# Altium schematic symbol library WCAP-CSMH.SchLib: 111 symbols (part 3 of 3)
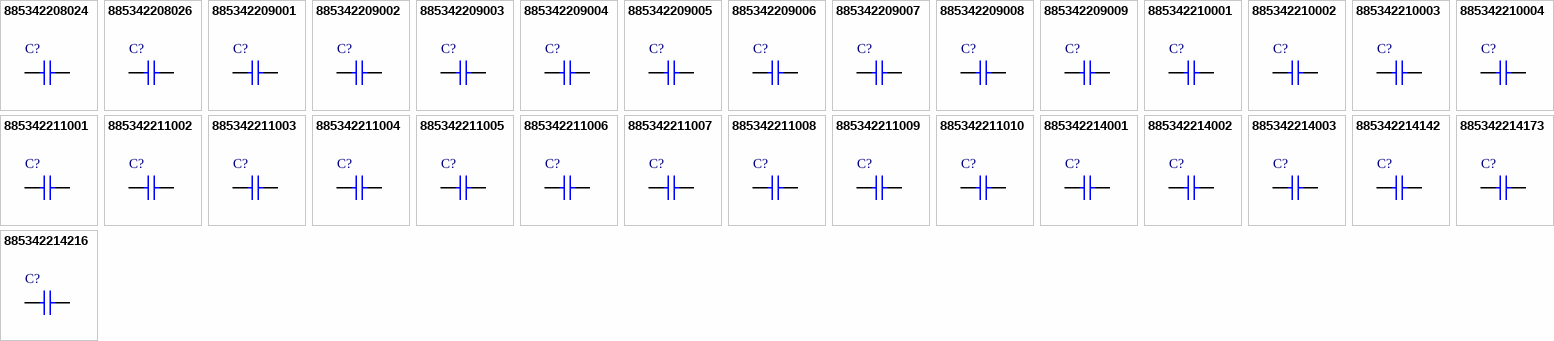
[diagram p4: symbols 885342208024 to 885342214216]

## 885342211006
designator C?, comment 100nF  (value not drawn)
WCAP-CSMH Multilayer Ceramic Chip Capacitor Mid and High Voltage, SMT, size 1812, X7R Class II, 100nF, 630V; Manufacturer Part Number: 885342211006; Manufacturer: Wurth Elektronik; Case/Size Code: 1812; Capacitance Tolerance: +/-10%; Dissipation Factor: 2.5%; Insulation Resistance: 1GΩ; Category: Multilayer Ceramic Chip Capacitors; Match Code: WCAP-CSMH; ComponentLink1Description: Website Link; ComponentLink1URL: https://www.we-online.com/redexpert/article/885342211006?ad; ComponentLink2Description: Datasheet Link; ComponentLink2URL: https://www.we-online.com/redexpert/spec/885342211006?ad; Mount: Surface Mount; Min Operating Temperature: -55°C; Max Operating Temperature: 125°C; Packaging: Tape and Reel; Length: 4.5mm; Width: 3.2mm; Height: 2mm; Capacitance: 100nF; Ceramic Type: X7R Class II; Rated Voltage (DC): 630V
footprint WCAP-CSMH_1812_H2
simulation model 1812_885342211006_100nF
pins: 1, 2

## 885342211007
designator C?, comment 2.2nF  (value not drawn)
WCAP-CSMH Multilayer Ceramic Chip Capacitor Mid and High Voltage, SMT, size 1812, X7R Class II, 2.2nF, 2000V; Manufacturer Part Number: 885342211007; Manufacturer: Wurth Elektronik; Case/Size Code: 1812; Capacitance Tolerance: +/-10%; Dissipation Factor: 2.5%; Insulation Resistance: 10GΩ; Category: Multilayer Ceramic Chip Capacitors; Match Code: WCAP-CSMH; ComponentLink1Description: Website Link; ComponentLink1URL: https://www.we-online.com/redexpert/article/885342211007?ad; ComponentLink2Description: Datasheet Link; ComponentLink2URL: https://www.we-online.com/redexpert/spec/885342211007?ad; Mount: Surface Mount; Min Operating Temperature: -55°C; Max Operating Temperature: 125°C; Packaging: Tape and Reel; Length: 4.5mm; Width: 3.2mm; Height: 1.25mm; Capacitance: 2.2nF; Ceramic Type: X7R Class II; Rated Voltage (DC): 2000V
footprint WCAP-CSMH_1812_H1.25
simulation model 1812_885342211007_2.2nF
pins: 1, 2

## 885342211008
designator C?, comment 4.7nF  (value not drawn)
WCAP-CSMH Multilayer Ceramic Chip Capacitor Mid and High Voltage, SMT, size 1812, X7R Class II, 4.7nF, 2000V; Manufacturer Part Number: 885342211008; Manufacturer: Wurth Elektronik; Case/Size Code: 1812; Capacitance Tolerance: +/-10%; Dissipation Factor: 2.5%; Insulation Resistance: 10GΩ; Category: Multilayer Ceramic Chip Capacitors; Match Code: WCAP-CSMH; ComponentLink1Description: Website Link; ComponentLink1URL: https://www.we-online.com/redexpert/article/885342211008?ad; ComponentLink2Description: Datasheet Link; ComponentLink2URL: https://www.we-online.com/redexpert/spec/885342211008?ad; Mount: Surface Mount; Min Operating Temperature: -55°C; Max Operating Temperature: 125°C; Packaging: Tape and Reel; Length: 4.5mm; Width: 3.2mm; Height: 2mm; Capacitance: 4.7nF; Ceramic Type: X7R Class II; Rated Voltage (DC): 2000V
footprint WCAP-CSMH_1812_H2
simulation model 1812_885342211008_4.7nF
pins: 1, 2

## 885342211009
designator C?, comment 1nF  (value not drawn)
WCAP-CSMH Multilayer Ceramic Chip Capacitor Mid and High Voltage, SMT, size 1812, X7R Class II, 1nF, 3000V; Manufacturer Part Number: 885342211009; Manufacturer: Wurth Elektronik; Case/Size Code: 1812; Capacitance Tolerance: +/-10%; Dissipation Factor: 2.5%; Insulation Resistance: 10GΩ; Category: Multilayer Ceramic Chip Capacitors; Match Code: WCAP-CSMH; ComponentLink1Description: Website Link; ComponentLink1URL: https://www.we-online.com/redexpert/article/885342211009?ad; ComponentLink2Description: Datasheet Link; ComponentLink2URL: https://www.we-online.com/redexpert/spec/885342211009?ad; Mount: Surface Mount; Min Operating Temperature: -55°C; Max Operating Temperature: 125°C; Packaging: Tape and Reel; Length: 4.5mm; Width: 3.2mm; Height: 2mm; Capacitance: 1nF; Ceramic Type: X7R Class II; Rated Voltage (DC): 3000V
footprint WCAP-CSMH_1812_H2
simulation model 1812_885342211009_1nF
pins: 1, 2

## 885342211010
designator C?, comment 2.2nF  (value not drawn)
WCAP-CSMH Multilayer Ceramic Chip Capacitor Mid and High Voltage, SMT, size 1812, X7R Class II, 2.2nF, 3000V; Manufacturer Part Number: 885342211010; Manufacturer: Wurth Elektronik; Case/Size Code: 1812; Capacitance Tolerance: +/-10%; Dissipation Factor: 2.5%; Insulation Resistance: 10GΩ; Category: Multilayer Ceramic Chip Capacitors; Match Code: WCAP-CSMH; ComponentLink1Description: Website Link; ComponentLink1URL: https://www.we-online.com/redexpert/article/885342211010?ad; ComponentLink2Description: Datasheet Link; ComponentLink2URL: https://www.we-online.com/redexpert/spec/885342211010?ad; Mount: Surface Mount; Min Operating Temperature: -55°C; Max Operating Temperature: 125°C; Packaging: Tape and Reel; Length: 4.5mm; Width: 3.2mm; Height: 2.5mm; Capacitance: 2.2nF; Ceramic Type: X7R Class II; Rated Voltage (DC): 3000V
footprint WCAP-CSMH_1812_H2.5
simulation model 1812_885342211010_2.2nF
pins: 1, 2

## 885342214001
designator C?, comment 1µF  (value not drawn)
WCAP-CSMH Multilayer Ceramic Chip Capacitor Mid and High Voltage, SMT, size 2220, X7R Class II, 1µF, 630V; Manufacturer Part Number: 885342214001; Manufacturer: Wurth Elektronik; Case/Size Code: 2220; Capacitance Tolerance: +/-10%; Dissipation Factor: 2.5%; Insulation Resistance: 0.1GΩ; Category: Multilayer Ceramic Chip Capacitors; Match Code: WCAP-CSMH; ComponentLink1Description: Website Link; ComponentLink1URL: https://www.we-online.com/redexpert/article/885342214001?ad; ComponentLink2Description: Datasheet Link; ComponentLink2URL: https://www.we-online.com/redexpert/spec/885342214001?ad; Mount: Surface Mount; Min Operating Temperature: -55°C; Max Operating Temperature: 125°C; Packaging: Tape and Reel; Length: 5.7mm; Width: 5mm; Height: 2.8mm; Capacitance: 1µF; Ceramic Type: X7R Class II; Rated Voltage (DC): 630V
footprint WCAP-CSMH_2220_H2.8
simulation model 2220_885342214001_1uF
pins: 1, 2

## 885342214002
designator C?, comment 1µF  (value not drawn)
WCAP-CSMH Multilayer Ceramic Chip Capacitor Mid and High Voltage, SMT, size 2220, X7R Class II, 1µF, 250V; Manufacturer Part Number: 885342214002; Manufacturer: Wurth Elektronik; Case/Size Code: 2220; Capacitance Tolerance: +/-10%; Dissipation Factor: 2.5%; Insulation Resistance: 0.1GΩ; Category: Multilayer Ceramic Chip Capacitors; Match Code: WCAP-CSMH; ComponentLink1Description: Website Link; ComponentLink1URL: https://www.we-online.com/redexpert/article/885342214002?ad; ComponentLink2Description: Datasheet Link; ComponentLink2URL: https://www.we-online.com/redexpert/spec/885342214002?ad; Mount: Surface Mount; Min Operating Temperature: -55°C; Max Operating Temperature: 125°C; Packaging: Tape and Reel; Length: 5.7mm; Width: 5mm; Height: 2mm; Capacitance: 1µF; Ceramic Type: X7R Class II; Rated Voltage (DC): 250V
footprint WCAP-CSMH_2220_H2
simulation model 2220_885342214002_1uF
pins: 1, 2

## 885342214003
designator C?, comment 2.2µF  (value not drawn)
WCAP-CSMH Multilayer Ceramic Chip Capacitor Mid and High Voltage, SMT, size 2220, X7R Class II, 2.2µF, 250V; Manufacturer Part Number: 885342214003; Manufacturer: Wurth Elektronik; Case/Size Code: 2220; Capacitance Tolerance: +/-10%; Dissipation Factor: 2.5%; Insulation Resistance: 0.05GΩ; Category: Multilayer Ceramic Chip Capacitors; Match Code: WCAP-CSMH; ComponentLink1Description: Website Link; ComponentLink1URL: https://www.we-online.com/redexpert/article/885342214003?ad; ComponentLink2Description: Datasheet Link; ComponentLink2URL: https://www.we-online.com/redexpert/spec/885342214003?ad; Mount: Surface Mount; Min Operating Temperature: -55°C; Max Operating Temperature: 125°C; Packaging: Tape and Reel; Length: 5.7mm; Width: 5mm; Height: 2.5mm; Capacitance: 2.2µF; Ceramic Type: X7R Class II; Rated Voltage (DC): 250V
footprint WCAP-CSMH_2220_H2.5
simulation model 2220_885342214003_2.2uF
pins: 1, 2

## 885342214142
designator C?, comment 220nF  (value not drawn)
WCAP-CSMH Multilayer Ceramic Chip Capacitor Mid and High Voltage, SMT, size 2220, X7R Class II, 220nF, 630V; Manufacturer Part Number: 885342214142; Manufacturer: Wurth Elektronik; Case/Size Code: 2220; Capacitance Tolerance: +/-10%; Dissipation Factor: 2.5%; Insulation Resistance: 0.5GΩ; Category: Multilayer Ceramic Chip Capacitors; Match Code: WCAP-CSMH; ComponentLink1Description: Website Link; ComponentLink1URL: https://www.we-online.com/redexpert/article/885342214142?ad; ComponentLink2Description: Datasheet Link; ComponentLink2URL: https://www.we-online.com/redexpert/spec/885342214142?ad; Mount: Surface Mount; Min Operating Temperature: -55°C; Max Operating Temperature: 125°C; Packaging: Tape and Reel; Length: 5.7mm; Width: 5mm; Height: 2mm; Capacitance: 220nF; Ceramic Type: X7R Class II; Rated Voltage (DC): 630V
footprint WCAP-CSMH_2220_H2
simulation model 2220_885342214142_220nF
pins: 1, 2

## 885342214173
designator C?, comment 100nF  (value not drawn)
WCAP-CSMH Multilayer Ceramic Chip Capacitor Mid and High Voltage, SMT, size 2220, X7R Class II, 100nF, 1000V; Manufacturer Part Number: 885342214173; Manufacturer: Wurth Elektronik; Case/Size Code: 2220; Capacitance Tolerance: +/-10%; Dissipation Factor: 2.5%; Insulation Resistance: 1GΩ; Category: Multilayer Ceramic Chip Capacitors; Match Code: WCAP-CSMH; ComponentLink1Description: Website Link; ComponentLink1URL: https://www.we-online.com/redexpert/article/885342214173?ad; ComponentLink2Description: Datasheet Link; ComponentLink2URL: https://www.we-online.com/redexpert/spec/885342214173?ad; Mount: Surface Mount; Min Operating Temperature: -55°C; Max Operating Temperature: 125°C; Packaging: Tape and Reel; Length: 5.7mm; Width: 5mm; Height: 2.5mm; Capacitance: 100nF; Ceramic Type: X7R Class II; Rated Voltage (DC): 1000V
footprint WCAP-CSMH_2220_H2.5
simulation model 2220_885342214173_100nF
pins: 1, 2

## 885342214216
designator C?, comment 22nF  (value not drawn)
WCAP-CSMH Multilayer Ceramic Chip Capacitor Mid and High Voltage, SMT, size 2220, X7R Class II, 22nF, 2000V; Manufacturer Part Number: 885342214216; Manufacturer: Wurth Elektronik; Case/Size Code: 2220; Capacitance Tolerance: +/-10%; Dissipation Factor: 2.5%; Insulation Resistance: 5GΩ; Category: Multilayer Ceramic Chip Capacitors; Match Code: WCAP-CSMH; ComponentLink1Description: Website Link; ComponentLink1URL: https://www.we-online.com/redexpert/article/885342214216?ad; ComponentLink2Description: Datasheet Link; ComponentLink2URL: https://www.we-online.com/redexpert/spec/885342214216?ad; Mount: Surface Mount; Min Operating Temperature: -55°C; Max Operating Temperature: 125°C; Packaging: Tape and Reel; Length: 5.7mm; Width: 5mm; Height: 2.8mm; Capacitance: 22nF; Ceramic Type: X7R Class II; Rated Voltage (DC): 2000V
footprint WCAP-CSMH_2220_H2.8
simulation model 2220_885342214216_22nF
pins: 1, 2